# Altium schematic symbol library 120266_FFC_FPC.SchLib: 1 symbol
Pins are listed as number, name and electrical type; pins without a type are passive.

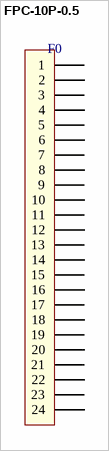
[diagram p0: symbol FPC-10P-0.5]

## FPC-10P-0.5
designator F0  (value not drawn)
FPC连接器 0.5MM
footprint FH12-20S-1.0SH (Connector; FH12 Series; 20 Position; 1.0mm Spaced Bottom Standard Contact)
pins: 1, 2, 3, 4, 5, 6, 7, 8, 9, 10, 11, 12, 13, 14, 15, 16, 17, 18, 19, 20, 21, 22, 23, 24